# Altium footprint library BQ29209DRBR.PcbLib: 1 footprints
Each footprint in its own frame and in the unit in brackets; x right, y up, seen from the top. Pads: shape width x height; smd on the part's side, far side on the other; paste and mask are expansions set on the pad; w line width, h text height; cw(c..) or ccw(c..) is an arc to the next point about the centre after c.
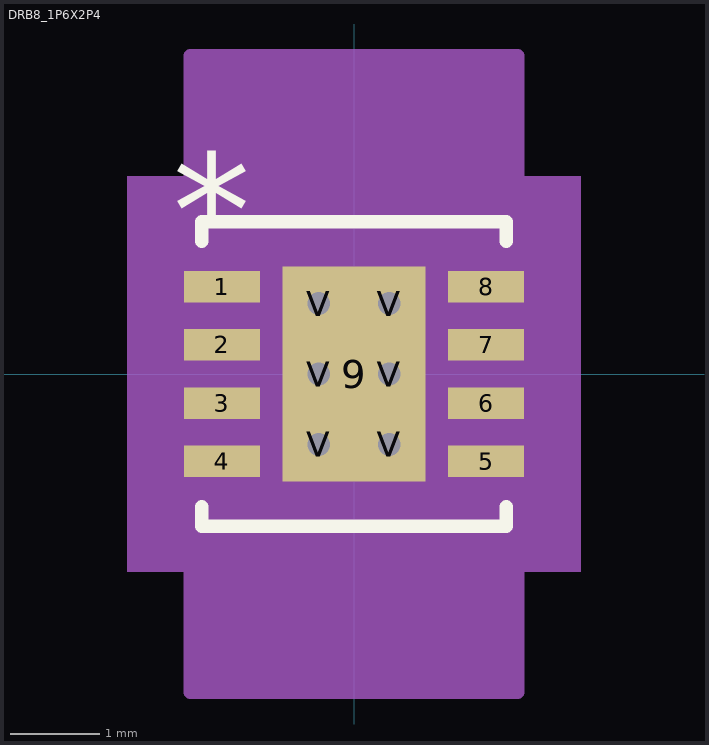
[diagram p0: the footprint, top view; thin cyan lines are the x and y axes]

## DRB8_1P6X2P4 [mm]
pads (15):
  rect 0.85x0.35 smd: 1(-1.475,0.975) 2(-1.475,0.325) 3(-1.475,-0.325) 4(-1.475,-0.975) 5(1.475,-0.975) 6(1.475,-0.325) 7(1.475,0.325) 8(1.475,0.975)
  rect 1.6x2.4 smd paste-1.187 mask-1.181: 9(0,0)
  round 0.508 hole 0.254: V(-0.394,-0.787) V(-0.394,0) V(-0.394,0.787) V(0.394,-0.787) V(0.394,0) V(0.394,0.787)
Top Layer:
  region: 0,-1.2
  region: 0,1.2
Top Overlay:
  lines w0.152: -1.702,-1.483 -1.702,-1.702 1.702,-1.702 1.702,-1.483 ; -1.702,1.483 -1.702,1.702 1.702,1.702 1.702,1.483
  text "*" at -2.026,1.198 h1.27
Top Paste:
  drawing of 22 lines, arcs and shapes, not listed
Top Solder:
  region: 0.594,-1.264 0.594,1.264 0.864,1.264 0.864,-1.264
  region: 0.194,-1.264 0.194,1.264 -0.194,1.264 -0.194,-1.264
  region: -0.864,-1.264 -0.864,1.264 -0.594,1.264 -0.594,-1.264
  region: -0.864,-1.264 -0.864,-0.987 0.864,-0.987 0.864,-1.264
  region: -0.864,-0.587 -0.864,-0.2 0.864,-0.2 0.864,-0.587
  region: -0.864,0.2 -0.864,0.587 0.864,0.587 0.864,0.2
  region: -0.864,0.987 -0.864,1.264 0.864,1.264 0.864,0.987
  region: 0,-1.2
  region: 0,1.2
  region: 1.97,1.22 0.98,1.22 0.98,0.73 1.97,0.73
  region: 1.97,0.57 0.98,0.57 0.98,0.08 1.97,0.08
  region: 1.97,-0.08 0.98,-0.08 0.98,-0.57 1.97,-0.57
  region: 1.97,-0.73 0.98,-0.73 0.98,-1.22 1.97,-1.22
  region: -0.98,-0.73 -1.97,-0.73 -1.97,-1.22 -0.98,-1.22
  region: -0.98,-0.08 -1.97,-0.08 -1.97,-0.57 -0.98,-0.57
  region: -0.98,0.57 -1.97,0.57 -1.97,0.08 -0.98,0.08
  region: -0.98,1.22 -1.97,1.22 -1.97,0.73 -0.98,0.73
Mechanical 5:
  region: 2.535,-2.21 -2.535,-2.21 -2.535,2.21 2.535,2.21
Mechanical 13:
  lines w0: -0.305,1.575 ccw(c0,1.575) 0.305,1.575
  lines w0.025: -1.575,-1.575 -1.575,1.575 1.575,1.575 1.575,-1.575 -1.575,-1.575 ; -1.575,-1.16 -1.575,-0.79 -1.575,-1.16 ; -1.575,-0.51 -1.575,-0.14 -1.575,-0.51 ; -1.575,0.14 -1.575,0.51 -1.575,0.14 ; -1.575,0.79 -1.575,1.16 -1.575,0.79 ; 1.575,-1.16 1.575,-0.79 1.575,-1.16 ; 1.575,-0.51 1.575,-0.14 1.575,-0.51 ; 1.575,0.14 1.575,0.51 1.575,0.14 ; 1.575,0.79 1.575,1.16 1.575,0.79
  text "*" at -1.639,0.055 h1.27
Mechanical 15:
  region: -1.829,-1.404 -2.154,-1.404 -2.154,1.404 -1.829,1.404 -1.829,3.554 1.829,3.554 1.829,1.404 2.154,1.404 2.154,-1.404 1.829,-1.404 1.829,-3.554 -1.829,-3.554
  lines w0.152: -2.154,-1.404 -1.829,-1.404 -1.829,-3.554 1.829,-3.554 1.829,-1.404 2.154,-1.404 2.154,1.404 1.829,1.404 1.829,3.554 -1.829,3.554 -1.829,1.404 -2.154,1.404 -2.154,-1.404
3D body "DRB0008B.stp": height 0.77, standoff 0, extent -1.5,-1.5 1.5,1.5
3D body "DRB8_1P6X2P4.step": height 1.7, standoff 0.2, extent -1.575,-1.575 1.575,1.575